# Altium schematic symbol library 0402_Inductors_SMD.SchLib: 1 symbol
Pins are listed as number, name and electrical type; pins without a type are passive.

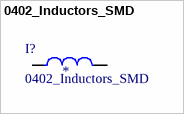
[diagram p0: symbol 0402_Inductors_SMD]

## 0402_Inductors_SMD
designator I?
0402  Inductors (SMD) ROHS; LCSC: *
footprint 0402_Inductors_SMD
pins: 1, 2